# Altium schematic symbol library Components.SchLib: 3 symbols
Pins are listed as number, name and electrical type; pins without a type are passive.

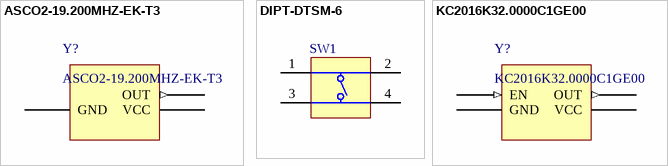
[diagram p0: symbols ASCO2-19.200MHZ-EK-T3 to KC2016K32.0000C1GE00]

## ASCO2-19.200MHZ-EK-T3
designator Y?
OSC XO 19.2MHZ CMOS SMD; Manufacturer: Abracon; PartNumber: ASCO2-19.200MHZ-EK-T3; Mounting Technology: Surface Mount; PackageReference: SMD-4
footprint ASCO
pins: 2 GND (power), 3 OUT (out), 4 VCC (power)

## DIPT-DTSM-6
designator SW1
Switch, SPNO Push Button SMD; Manufacturer: C&K Components; PartNumber: PTS810 SJM 250 SMTR LFS; Packing Type: Tape&Reel; Mechanical Life: 200,000 cycles; ComponentLink2URL: http://www.dip.com.tw/Products_tact.htm; ComponentLink1URL: http://www.dip.com.tw/; ComponentLink3URL: http://www.dip.com.tw/PDF/pro_tact/DTSM_G_-6_2_-V.pdf; PackageDescription: Switch, Surface Mount, 4 Leads, Body 4.6x2.8mm, Height 1.9mm; ComponentLink2Description: Datasheet; ComponentLink3Description: Package Specification; ComponentLink1Description: Manufacturer URL; PackageReference: PTS810; Mounting Technology: Surface Mount
footprint SWITCH
pins: 1 T1, 2 T2, 3 T3, 4 T3

## KC2016K32.0000C1GE00
designator Y?
OSC XO 32.0000MHZ CMOS SMD; Manufacturer: Kyocera; PartNumber: KC2016K32.0000C1GE00; Mounting Technology: Surface Mount; PackageReference: SMD-4
footprint KC2016K
pins: 1 EN (in), 2 GND (power), 3 OUT (out), 4 VCC (power)